# EAGLE library part 61500814221 (library Wuerth_Elektronik_eiCan_Modular_Jack_Connectors_v1.1)
WR-MJ Horizontal Shielded 8P8C Modular Jack Tab Down, 8 Pins
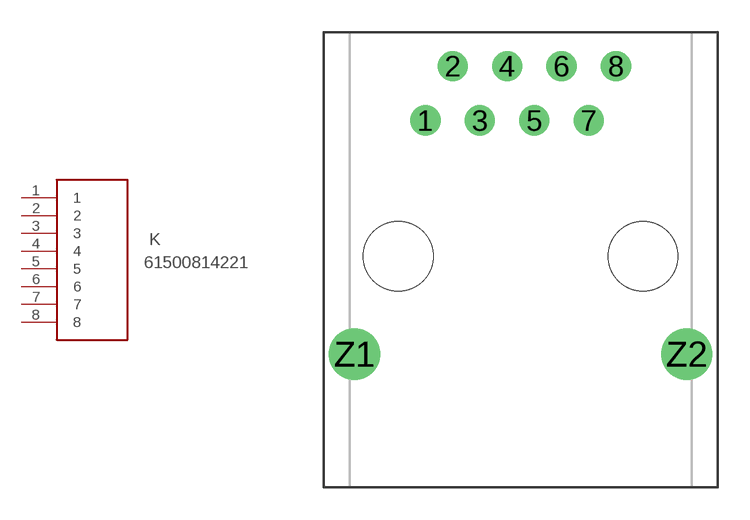
[diagram p1: symbol with the pads of 61500814221; footprint 61500814221]

Designator prefix K

## 61500814221  [61500814221]
1  1  pas
2  2  pas
3  3  pas
4  4  pas
5  5  pas
6  6  pas
7  7  pas
8  8  pas

## Footprint 61500814221 (pad centres in mm)
WR-MJ Horizontal Shielded 8P8C Modular Jack Tab Down, 8 Pins
drill 0.9 round: 1 -4.445,-1.27; 2 -3.175,1.27; 3 -1.905,-1.27; 4 -0.635,1.27; 5 0.635,-1.27; 6 1.905,1.27; 7 3.175,-1.27; 8 4.445,1.27
drill 1.6 round: Z1 -7.75,-12.19; Z2 7.75,-12.19
hole 3.25 at -5.715,-7.62
hole 3.25 at 5.715,-7.62